# Altium footprint library k7sch3.PcbLib: 8 footprints
Each footprint in its own frame and in the unit in brackets; x right, y up, seen from the top. Pads: shape width x height; smd on the part's side, far side on the other; paste and mask are expansions set on the pad; w line width, h text height; cw(c..) or ccw(c..) is an arc to the next point about the centre after c.
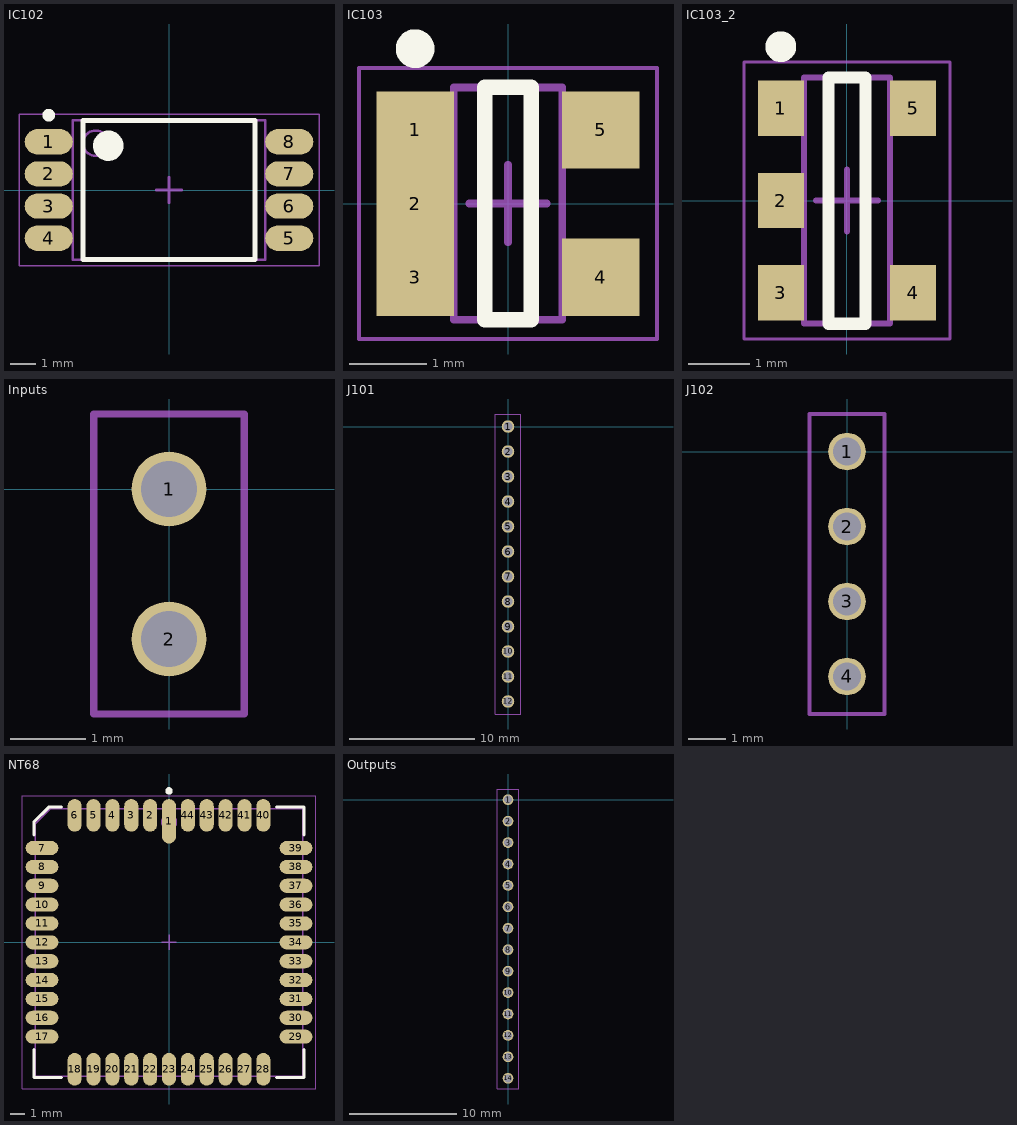
[diagram p0: the footprints below, top view; thin cyan lines are the x and y axes]

## IC102 [mm]
height 2.65
pads (8):
  oval 1.9x1 smd: 1(-4.75,1.905) 2(-4.75,0.635) 3(-4.75,-0.635) 4(-4.75,-1.905) 5(4.75,-1.905) 6(4.75,-0.635) 7(4.75,0.635) 8(4.75,1.905)
Top Overlay:
  circle w0.25: c-4.75,2.955 r0.125
  circle w0.6: c-2.4,1.75 r0.3
  lines w0.2: -3.4,-2.75 -3.4,2.75 3.4,2.75 3.4,-2.75 -3.4,-2.75
Mechanical 13:
  circle w0.1: c-2.9,1.85 r0.5
  lines w0.1: -3.8,-2.75 -3.8,2.75 3.8,2.75 3.8,-2.75 -3.8,-2.75
Mechanical 15:
  lines w0.05: -5.925,-3 -5.925,3 5.925,3 5.925,-3 -5.925,-3
  lines w0.1: -0.5,0 0.5,0 ; 0,-0.5 0,0.5
3D body: height 2.65, standoff 0.1, extent -3.8,-2.75 3.8,2.75

## IC103 [mm]
height 1.1
pads (5):
  rect 1x1 smd: 1(-1.2,0.95) 2(-1.2,0) 3(-1.2,-0.95) 4(1.2,-0.95) 5(1.2,0.95)
Top Overlay:
  circle w0.25: c-1.2,2 r0.125
  lines w0.2: -0.3,-1.5 -0.3,1.5 0.3,1.5 0.3,-1.5 -0.3,-1.5
Mechanical 13:
  lines w0.1: -0.7,-1.5 0.7,-1.5 0.7,1.5 -0.7,1.5 -0.7,-1.5
Mechanical 15:
  lines w0.05: -1.925,-1.75 1.925,-1.75 1.925,1.75 -1.925,1.75 -1.925,-1.75
  lines w0.1: -0.5,0 0.5,0 ; 0,-0.5 0,0.5
3D body: height 1.1, standoff 0.05, extent -0.7,-1.5 0.7,1.5

## IC103_2 [mm]
height 1.1
pads (5):
  rect 0.75x0.9 smd: 1(-1.075,1.5) 2(-1.075,0) 3(-1.075,-1.5) 4(1.075,-1.5) 5(1.075,1.5)
Top Overlay:
  circle w0.25: c-1.075,2.5 r0.125
  lines w0.2: -0.3,-2 -0.3,2 0.3,2 0.3,-2 -0.3,-2
Mechanical 13:
  lines w0.1: -0.7,-2 0.7,-2 0.7,2 -0.7,2 -0.7,-2
Mechanical 15:
  lines w0.05: -1.675,-2.25 1.675,-2.25 1.675,2.25 -1.675,2.25 -1.675,-2.25
  lines w0.1: -0.5,0 0.5,0 ; 0,-0.5 0,0.5
3D body: height 1.1, standoff 0.05, extent -0.7,-2 0.7,2

## Inputs [mm]
pads (2):
  round 1 hole 0.75: 1(0,0) 2(0,-2)
Mechanical 15:
  lines w0.1: -1,-3 -1,1 1,1 1,-3 -1,-3

## J101 [mm]
pads (12):
  round 1 hole 0.75: 1(0,0) 2(0,-2) 3(0,-4) 4(0,-6) 5(0,-8) 6(0,-10) 7(0,-12) 8(0,-14) 9(0,-16) 10(0,-18) 11(0,-20) 12(0,-22)
Mechanical 15:
  lines w0.1: -1,-23 1,-23 1,1 -1,1 -1,-23

## J102 [mm]
pads (4):
  round 1 hole 0.75: 1(0,0) 2(0,-2) 3(0,-4) 4(0,-6)
Mechanical 15:
  lines w0.1: -1,-7 1,-7 1,1 -1,1 -1,-7

## NT68 [mm]
height 2.54
pads (44):
  oval 0.95x3 smd: 1(0,8.15)
  oval 0.95x2.2 smd: 2(-1.27,8.55) 3(-2.54,8.55) 4(-3.81,8.55) 5(-5.08,8.55) 6(-6.35,8.55) 18(-6.35,-8.55) 19(-5.08,-8.55) 20(-3.81,-8.55) 21(-2.54,-8.55) 22(-1.27,-8.55) 23(0,-8.55) 24(1.27,-8.55) 25(2.54,-8.55) 26(3.81,-8.55) 27(5.08,-8.55) 28(6.35,-8.55) 40(6.35,8.55) 41(5.08,8.55) 42(3.81,8.55) 43(2.54,8.55) 44(1.27,8.55)
  oval 2.2x0.95 smd: 7(-8.55,6.35) 8(-8.55,5.08) 9(-8.55,3.81) 10(-8.55,2.54) 11(-8.55,1.27) 12(-8.55,0) 13(-8.55,-1.27) 14(-8.55,-2.54) 15(-8.55,-3.81) 16(-8.55,-5.08) 17(-8.55,-6.35) 29(8.55,-6.35) 30(8.55,-5.08) 31(8.55,-3.81) 32(8.55,-2.54) 33(8.55,-1.27) 34(8.55,0) 35(8.55,1.27) 36(8.55,2.54) 37(8.55,3.81) 38(8.55,5.08) 39(8.55,6.35)
Top Overlay:
  circle w0.25: c0,10.2 r0.125
  lines w0.2: -9.1,-7.225 -9.1,-9.1 -7.225,-9.1 ; -9.1,7.225 -9.1,8.1 -8.1,9.1 -7.225,9.1 ; 7.225,-9.1 9.1,-9.1 9.1,-7.225 ; 7.225,9.1 9.1,9.1 9.1,7.225
Mechanical 13:
  circle w0.1: c0,8.1 r0.5
  lines w0.1: -9,-9 -9,8 -8,9 9,9 9,-9 -9,-9
Mechanical 15:
  lines w0.05: -9.875,-9.875 -9.875,9.875 9.875,9.875 9.875,-9.875 -9.875,-9.875
  lines w0.1: -0.5,0 0.5,0 ; 0,-0.5 0,0.5
3D body: height 2.54, standoff 0, extent -9,-9 9,9

## Outputs [mm]
pads (14):
  round 1 hole 0.75: 1(0,0) 2(0,-2) 3(0,-4) 4(0,-6) 5(0,-8) 6(0,-10) 7(0,-12) 8(0,-14) 9(0,-16) 10(0,-18) 11(0,-20) 12(0,-22) 13(0,-24) 14(0,-26)
Mechanical 15:
  lines w0.1: -1,-27 1,-27 1,-25 1,1 -1,1 -1,-25 -1,-27